# EAGLE library part 310010108_ATTINY85-20SU (library Seeed-OPL-2017-01-IC-Akita)
Atmel;ATTINY85-20SU, SMD IC MCU;SOIC-8, SKU: 310010108
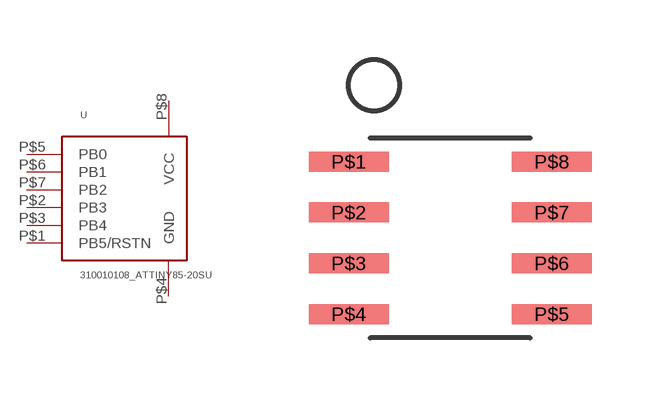
[diagram p2: symbol with the pads of SOIC8; footprint SOIC8]

Designator prefix U

## 310010108_ATTINY85-20SU  [SOIC8]
P$1  PB5/RSTN
P$2  PB3
P$3  PB4
P$4  GND  pwr
P$5  PB0
P$6  PB1
P$7  PB2
P$8  VCC  pwr

## Footprint SOIC8 (pad centres in mm)
SOIC8 (1.27mm pitch)
smd 2 x 0.5: P$1 -2.54,1.905; P$2 -2.54,0.635; P$3 -2.54,-0.635; P$4 -2.54,-1.905; P$5 2.54,-1.905; P$6 2.54,-0.635; P$7 2.54,0.635; P$8 2.54,1.905